# Altium schematic symbol library MIC5528-3.3YMT-T5.SchLib: 1 symbol
Pins are listed as number, name and electrical type; pins without a type are passive.

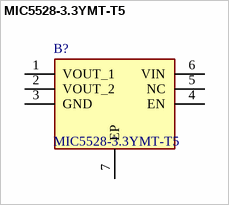
[diagram p0: symbol MIC5528-3.3YMT-T5]

## MIC5528-3.3YMT-T5
designator B?
LDO Voltage Regulators Single, 500mA LDO w/ Auto Discharge & Internal Enable Pulldown; Manufacturer_Name: Microchip; Geometry.Height: 0.6mm; Mouser Part Number: 998-MIC5528-3.3YMTT5; Mouser Price/Stock: https://www.mouser.co.uk/ProductDetail/Microchip-Technology/MIC5528-3.3YMT-T5?qs=U6T8BxXiZAUrsVLummtswg%3D%3D; Manufacturer_Part_Number: MIC5528-3.3YMT-T5; Datasheet Link: *
footprint SON40P120X120X60-7N-D
pins: 1 VOUT_1, 2 VOUT_2, 3 GND, 4 EN, 5 NC, 6 VIN, 7 EP